# Altium schematic symbol library jlcpcb_resistors_basic.schlib: 291 symbols (part 3 of 5)
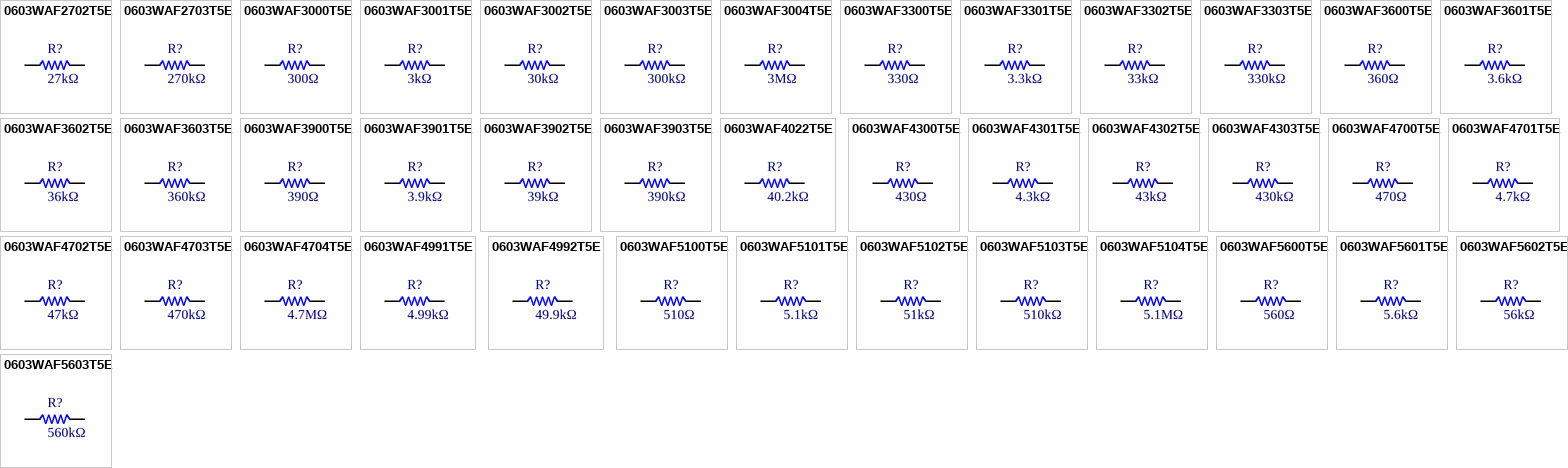
[diagram p9: symbols 0603WAF2702T5E to 0603WAF5603T5E]

## 0603WAF3300T5E
designator R?  Resistance: 330Ω  (hidden comment: *)
Resistor, 330Ω, ±1%, 100mW, 75V, ±100ppm/℃, -55℃~+155℃, SMD 0603; Manufacturer: Uniroyal; Manufacturer Part Number: 0603WAF3300T5E; Supplier 1: LCSC; Supplier Part Number 1: C23138; JLCPCB Part Number: C23138; Power Rating: 100mW; Category: Resistors; Package Size: 0603; JLCPCB Basic Part: Yes; Tolerance: ±1%; Voltage Rating: 75V; Temperature Coefficient: ±100ppm/℃; Temperature Rating: -55℃~+155℃; ComponentLink1Description: Datasheet; ComponentLink1URL: https://datasheet.lcsc.com/lcsc/2206010116_UNI-ROYAL-Uniroyal-Elec-0603WAF3300T5E_C23138.pdf; ComponentLink2Description: JLCPCB Part URL; ComponentLink2URL: https://jlcpcb.com/partdetail/C23138
footprint RES-0603 (0603 (1608M) Capacitor)
pins: 1, 2

## 0603WAF3301T5E
designator R?  Resistance: 3.3kΩ  (hidden comment: *)
Resistor, 3.3kΩ, ±1%, 100mW, 75V, ±100ppm/℃, -55℃~+155℃, SMD 0603; Manufacturer: Uniroyal; Manufacturer Part Number: 0603WAF3301T5E; Supplier 1: LCSC; Supplier Part Number 1: C22978; JLCPCB Part Number: C22978; Power Rating: 100mW; Category: Resistors; Package Size: 0603; JLCPCB Basic Part: Yes; Tolerance: ±1%; Voltage Rating: 75V; Temperature Coefficient: ±100ppm/℃; Temperature Rating: -55℃~+155℃; ComponentLink1Description: Datasheet; ComponentLink1URL: https://datasheet.lcsc.com/lcsc/2206010116_UNI-ROYAL-Uniroyal-Elec-0603WAF3301T5E_C22978.pdf; ComponentLink2Description: JLCPCB Part URL; ComponentLink2URL: https://jlcpcb.com/partdetail/C22978
footprint RES-0603 (0603 (1608M) Capacitor)
pins: 1, 2

## 0603WAF3302T5E
designator R?  Resistance: 33kΩ  (hidden comment: *)
Resistor, 33kΩ, ±1%, 100mW, 75V, ±100ppm/℃, -55℃~+155℃, SMD 0603; Manufacturer: Uniroyal; Manufacturer Part Number: 0603WAF3302T5E; Supplier 1: LCSC; Supplier Part Number 1: C4216; JLCPCB Part Number: C4216; Power Rating: 100mW; Category: Resistors; Package Size: 0603; JLCPCB Basic Part: Yes; Tolerance: ±1%; Voltage Rating: 75V; Temperature Coefficient: ±100ppm/℃; Temperature Rating: -55℃~+155℃; ComponentLink1Description: Datasheet; ComponentLink1URL: https://datasheet.lcsc.com/lcsc/2206010230_UNI-ROYAL-Uniroyal-Elec-0603WAF3302T5E_C4216.pdf; ComponentLink2Description: JLCPCB Part URL; ComponentLink2URL: https://jlcpcb.com/partdetail/C4216
footprint RES-0603 (0603 (1608M) Capacitor)
pins: 1, 2

## 0603WAF3303T5E
designator R?  Resistance: 330kΩ  (hidden comment: *)
Resistor, 330kΩ, ±1%, 100mW, 75V, ±100ppm/℃, -55℃~+155℃, SMD 0603; Manufacturer: Uniroyal; Manufacturer Part Number: 0603WAF3303T5E; Supplier 1: LCSC; Supplier Part Number 1: C23137; JLCPCB Part Number: C23137; Power Rating: 100mW; Category: Resistors; Package Size: 0603; JLCPCB Basic Part: Yes; Tolerance: ±1%; Voltage Rating: 75V; Temperature Coefficient: ±100ppm/℃; Temperature Rating: -55℃~+155℃; ComponentLink1Description: Datasheet; ComponentLink1URL: https://datasheet.lcsc.com/lcsc/2206010116_UNI-ROYAL-Uniroyal-Elec-0603WAF3303T5E_C23137.pdf; ComponentLink2Description: JLCPCB Part URL; ComponentLink2URL: https://jlcpcb.com/partdetail/C23137
footprint RES-0603 (0603 (1608M) Capacitor)
pins: 1, 2

## 0603WAF3600T5E
designator R?  Resistance: 360Ω  (hidden comment: *)
Resistor, 360Ω, ±1%, 100mW, 75V, ±100ppm/℃, -55℃~+155℃, SMD 0603; Manufacturer: Uniroyal; Manufacturer Part Number: 0603WAF3600T5E; Supplier 1: LCSC; Supplier Part Number 1: C25194; JLCPCB Part Number: C25194; Power Rating: 100mW; Category: Resistors; Package Size: 0603; JLCPCB Basic Part: Yes; Tolerance: ±1%; Voltage Rating: 75V; Temperature Coefficient: ±100ppm/℃; Temperature Rating: -55℃~+155℃; ComponentLink1Description: Datasheet; ComponentLink1URL: https://datasheet.lcsc.com/lcsc/2205311845_UNI-ROYAL-Uniroyal-Elec-0603WAF3600T5E_C25194.pdf; ComponentLink2Description: JLCPCB Part URL; ComponentLink2URL: https://jlcpcb.com/partdetail/C25194
footprint RES-0603 (0603 (1608M) Capacitor)
pins: 1, 2

## 0603WAF3601T5E
designator R?  Resistance: 3.6kΩ  (hidden comment: *)
Resistor, 3.6kΩ, ±1%, 100mW, 75V, ±100ppm/℃, -55℃~+155℃, SMD 0603; Manufacturer: Uniroyal; Manufacturer Part Number: 0603WAF3601T5E; Supplier 1: LCSC; Supplier Part Number 1: C22980; JLCPCB Part Number: C22980; Power Rating: 100mW; Category: Resistors; Package Size: 0603; JLCPCB Basic Part: Yes; Tolerance: ±1%; Voltage Rating: 75V; Temperature Coefficient: ±100ppm/℃; Temperature Rating: -55℃~+155℃; ComponentLink1Description: Datasheet; ComponentLink1URL: https://datasheet.lcsc.com/lcsc/2206010116_UNI-ROYAL-Uniroyal-Elec-0603WAF3601T5E_C22980.pdf; ComponentLink2Description: JLCPCB Part URL; ComponentLink2URL: https://jlcpcb.com/partdetail/C22980
footprint RES-0603 (0603 (1608M) Capacitor)
pins: 1, 2

## 0603WAF3602T5E
designator R?  Resistance: 36kΩ  (hidden comment: *)
Resistor, 36kΩ, ±1%, 100mW, 75V, ±100ppm/℃, -55℃~+155℃, SMD 0603; Manufacturer: Uniroyal; Manufacturer Part Number: 0603WAF3602T5E; Supplier 1: LCSC; Supplier Part Number 1: C23147; JLCPCB Part Number: C23147; Power Rating: 100mW; Category: Resistors; Package Size: 0603; JLCPCB Basic Part: Yes; Tolerance: ±1%; Voltage Rating: 75V; Temperature Coefficient: ±100ppm/℃; Temperature Rating: -55℃~+155℃; ComponentLink1Description: Datasheet; ComponentLink1URL: https://datasheet.lcsc.com/lcsc/2206010116_UNI-ROYAL-Uniroyal-Elec-0603WAF3602T5E_C23147.pdf; ComponentLink2Description: JLCPCB Part URL; ComponentLink2URL: https://jlcpcb.com/partdetail/C23147
footprint RES-0603 (0603 (1608M) Capacitor)
pins: 1, 2

## 0603WAF3603T5E
designator R?  Resistance: 360kΩ  (hidden comment: *)
Resistor, 360kΩ, ±1%, 100mW, 75V, ±100ppm/℃, -55℃~+155℃, SMD 0603; Manufacturer: Uniroyal; Manufacturer Part Number: 0603WAF3603T5E; Supplier 1: LCSC; Supplier Part Number 1: C23146; JLCPCB Part Number: C23146; Power Rating: 100mW; Category: Resistors; Package Size: 0603; JLCPCB Basic Part: Yes; Tolerance: ±1%; Voltage Rating: 75V; Temperature Coefficient: ±100ppm/℃; Temperature Rating: -55℃~+155℃; ComponentLink1Description: Datasheet; ComponentLink1URL: https://datasheet.lcsc.com/lcsc/2206010116_UNI-ROYAL-Uniroyal-Elec-0603WAF3603T5E_C23146.pdf; ComponentLink2Description: JLCPCB Part URL; ComponentLink2URL: https://jlcpcb.com/partdetail/C23146
footprint RES-0603 (0603 (1608M) Capacitor)
pins: 1, 2

## 0603WAF3900T5E
designator R?  Resistance: 390Ω  (hidden comment: *)
Resistor, 390Ω, ±1%, 100mW, 75V, ±100ppm/℃, -55℃~+155℃, SMD 0603; Manufacturer: Uniroyal; Manufacturer Part Number: 0603WAF3900T5E; Supplier 1: LCSC; Supplier Part Number 1: C23151; JLCPCB Part Number: C23151; Power Rating: 100mW; Category: Resistors; Package Size: 0603; JLCPCB Basic Part: Yes; Tolerance: ±1%; Voltage Rating: 75V; Temperature Coefficient: ±100ppm/℃; Temperature Rating: -55℃~+155℃; ComponentLink1Description: Datasheet; ComponentLink1URL: https://datasheet.lcsc.com/lcsc/2206010116_UNI-ROYAL-Uniroyal-Elec-0603WAF3900T5E_C23151.pdf; ComponentLink2Description: JLCPCB Part URL; ComponentLink2URL: https://jlcpcb.com/partdetail/C23151
footprint RES-0603 (0603 (1608M) Capacitor)
pins: 1, 2

## 0603WAF3901T5E
designator R?  Resistance: 3.9kΩ  (hidden comment: *)
Resistor, 3.9kΩ, ±1%, 100mW, 75V, ±100ppm/℃, -55℃~+155℃, SMD 0603; Manufacturer: Uniroyal; Manufacturer Part Number: 0603WAF3901T5E; Supplier 1: LCSC; Supplier Part Number 1: C23018; JLCPCB Part Number: C23018; Power Rating: 100mW; Category: Resistors; Package Size: 0603; JLCPCB Basic Part: Yes; Tolerance: ±1%; Voltage Rating: 75V; Temperature Coefficient: ±100ppm/℃; Temperature Rating: -55℃~+155℃; ComponentLink1Description: Datasheet; ComponentLink1URL: https://datasheet.lcsc.com/lcsc/2206010116_UNI-ROYAL-Uniroyal-Elec-0603WAF3901T5E_C23018.pdf; ComponentLink2Description: JLCPCB Part URL; ComponentLink2URL: https://jlcpcb.com/partdetail/C23018
footprint RES-0603 (0603 (1608M) Capacitor)
pins: 1, 2

## 0603WAF3902T5E
designator R?  Resistance: 39kΩ  (hidden comment: *)
Resistor, 39kΩ, ±1%, 100mW, 75V, ±100ppm/℃, -55℃~+155℃, SMD 0603; Manufacturer: Uniroyal; Manufacturer Part Number: 0603WAF3902T5E; Supplier 1: LCSC; Supplier Part Number 1: C23153; JLCPCB Part Number: C23153; Power Rating: 100mW; Category: Resistors; Package Size: 0603; JLCPCB Basic Part: Yes; Tolerance: ±1%; Voltage Rating: 75V; Temperature Coefficient: ±100ppm/℃; Temperature Rating: -55℃~+155℃; ComponentLink1Description: Datasheet; ComponentLink1URL: https://datasheet.lcsc.com/lcsc/2206010116_UNI-ROYAL-Uniroyal-Elec-0603WAF3902T5E_C23153.pdf; ComponentLink2Description: JLCPCB Part URL; ComponentLink2URL: https://jlcpcb.com/partdetail/C23153
footprint RES-0603 (0603 (1608M) Capacitor)
pins: 1, 2

## 0603WAF3903T5E
designator R?  Resistance: 390kΩ  (hidden comment: *)
Resistor, 390kΩ, ±1%, 100mW, 75V, ±100ppm/℃, -55℃~+155℃, SMD 0603; Manufacturer: Uniroyal; Manufacturer Part Number: 0603WAF3903T5E; Supplier 1: LCSC; Supplier Part Number 1: C23150; JLCPCB Part Number: C23150; Power Rating: 100mW; Category: Resistors; Package Size: 0603; JLCPCB Basic Part: Yes; Tolerance: ±1%; Voltage Rating: 75V; Temperature Coefficient: ±100ppm/℃; Temperature Rating: -55℃~+155℃; ComponentLink1Description: Datasheet; ComponentLink1URL: https://datasheet.lcsc.com/lcsc/2206010116_UNI-ROYAL-Uniroyal-Elec-0603WAF3903T5E_C23150.pdf; ComponentLink2Description: JLCPCB Part URL; ComponentLink2URL: https://jlcpcb.com/partdetail/C23150
footprint RES-0603 (0603 (1608M) Capacitor)
pins: 1, 2

## 0603WAF4022T5E
designator R?  Resistance: 40.2kΩ  (hidden comment: *)
Resistor, 40.2kΩ, ±1%, 100mW, 75V, ±100ppm/℃, -55℃~+155℃, SMD 0603; Manufacturer: Uniroyal; Manufacturer Part Number: 0603WAF4022T5E; Supplier 1: LCSC; Supplier Part Number 1: C12447; JLCPCB Part Number: C12447; Power Rating: 100mW; Category: Resistors; Package Size: 0603; JLCPCB Basic Part: Yes; Tolerance: ±1%; Voltage Rating: 75V; Temperature Coefficient: ±100ppm/℃; Temperature Rating: -55℃~+155℃; ComponentLink1Description: Datasheet; ComponentLink1URL: https://datasheet.lcsc.com/lcsc/2206010216_UNI-ROYAL-Uniroyal-Elec-0603WAF4022T5E_C12447.pdf; ComponentLink2Description: JLCPCB Part URL; ComponentLink2URL: https://jlcpcb.com/partdetail/C12447
footprint RES-0603 (0603 (1608M) Capacitor)
pins: 1, 2

## 0603WAF4300T5E
designator R?  Resistance: 430Ω  (hidden comment: *)
Resistor, 430Ω, ±1%, 100mW, 75V, ±100ppm/℃, -55℃~+155℃, SMD 0603; Manufacturer: Uniroyal; Manufacturer Part Number: 0603WAF4300T5E; Supplier 1: LCSC; Supplier Part Number 1: C23170; JLCPCB Part Number: C23170; Power Rating: 100mW; Category: Resistors; Package Size: 0603; JLCPCB Basic Part: Yes; Tolerance: ±1%; Voltage Rating: 75V; Temperature Coefficient: ±100ppm/℃; Temperature Rating: -55℃~+155℃; ComponentLink1Description: Datasheet; ComponentLink1URL: https://datasheet.lcsc.com/lcsc/2206010116_UNI-ROYAL-Uniroyal-Elec-0603WAF4300T5E_C23170.pdf; ComponentLink2Description: JLCPCB Part URL; ComponentLink2URL: https://jlcpcb.com/partdetail/C23170
footprint RES-0603 (0603 (1608M) Capacitor)
pins: 1, 2

## 0603WAF4301T5E
designator R?  Resistance: 4.3kΩ  (hidden comment: *)
Resistor, 4.3kΩ, ±1%, 100mW, 75V, ±100ppm/℃, -55℃~+155℃, SMD 0603; Manufacturer: Uniroyal; Manufacturer Part Number: 0603WAF4301T5E; Supplier 1: LCSC; Supplier Part Number 1: C23159; JLCPCB Part Number: C23159; Power Rating: 100mW; Category: Resistors; Package Size: 0603; JLCPCB Basic Part: Yes; Tolerance: ±1%; Voltage Rating: 75V; Temperature Coefficient: ±100ppm/℃; Temperature Rating: -55℃~+155℃; ComponentLink1Description: Datasheet; ComponentLink1URL: https://datasheet.lcsc.com/lcsc/2206010116_UNI-ROYAL-Uniroyal-Elec-0603WAF4301T5E_C23159.pdf; ComponentLink2Description: JLCPCB Part URL; ComponentLink2URL: https://jlcpcb.com/partdetail/C23159
footprint RES-0603 (0603 (1608M) Capacitor)
pins: 1, 2

## 0603WAF4302T5E
designator R?  Resistance: 43kΩ  (hidden comment: *)
Resistor, 43kΩ, ±1%, 100mW, 75V, ±100ppm/℃, -55℃~+155℃, SMD 0603; Manufacturer: Uniroyal; Manufacturer Part Number: 0603WAF4302T5E; Supplier 1: LCSC; Supplier Part Number 1: C23172; JLCPCB Part Number: C23172; Power Rating: 100mW; Category: Resistors; Package Size: 0603; JLCPCB Basic Part: Yes; Tolerance: ±1%; Voltage Rating: 75V; Temperature Coefficient: ±100ppm/℃; Temperature Rating: -55℃~+155℃; ComponentLink1Description: Datasheet; ComponentLink1URL: https://datasheet.lcsc.com/lcsc/2206010116_UNI-ROYAL-Uniroyal-Elec-0603WAF4302T5E_C23172.pdf; ComponentLink2Description: JLCPCB Part URL; ComponentLink2URL: https://jlcpcb.com/partdetail/C23172
footprint RES-0603 (0603 (1608M) Capacitor)
pins: 1, 2

## 0603WAF4303T5E
designator R?  Resistance: 430kΩ  (hidden comment: *)
Resistor, 430kΩ, ±1%, 100mW, 75V, ±100ppm/℃, -55℃~+155℃, SMD 0603; Manufacturer: Uniroyal; Manufacturer Part Number: 0603WAF4303T5E; Supplier 1: LCSC; Supplier Part Number 1: C25969; JLCPCB Part Number: C25969; Power Rating: 100mW; Category: Resistors; Package Size: 0603; JLCPCB Basic Part: Yes; Tolerance: ±1%; Voltage Rating: 75V; Temperature Coefficient: ±100ppm/℃; Temperature Rating: -55℃~+155℃; ComponentLink1Description: Datasheet; ComponentLink1URL: https://datasheet.lcsc.com/lcsc/2206010045_UNI-ROYAL-Uniroyal-Elec-0603WAF4303T5E_C25969.pdf; ComponentLink2Description: JLCPCB Part URL; ComponentLink2URL: https://jlcpcb.com/partdetail/C25969
footprint RES-0603 (0603 (1608M) Capacitor)
pins: 1, 2

## 0603WAF4700T5E
designator R?  Resistance: 470Ω  (hidden comment: *)
Resistor, 470Ω, ±1%, 100mW, 75V, ±100ppm/℃, -55℃~+155℃, SMD 0603; Manufacturer: Uniroyal; Manufacturer Part Number: 0603WAF4700T5E; Supplier 1: LCSC; Supplier Part Number 1: C23179; JLCPCB Part Number: C23179; Power Rating: 100mW; Category: Resistors; Package Size: 0603; JLCPCB Basic Part: Yes; Tolerance: ±1%; Voltage Rating: 75V; Temperature Coefficient: ±100ppm/℃; Temperature Rating: -55℃~+155℃; ComponentLink1Description: Datasheet; ComponentLink1URL: https://datasheet.lcsc.com/lcsc/2206010116_UNI-ROYAL-Uniroyal-Elec-0603WAF4700T5E_C23179.pdf; ComponentLink2Description: JLCPCB Part URL; ComponentLink2URL: https://jlcpcb.com/partdetail/C23179
footprint RES-0603 (0603 (1608M) Capacitor)
pins: 1, 2

## 0603WAF4701T5E
designator R?  Resistance: 4.7kΩ  (hidden comment: *)
Resistor, 4.7kΩ, ±1%, 100mW, 75V, ±100ppm/℃, -55℃~+155℃, SMD 0603; Manufacturer: Uniroyal; Manufacturer Part Number: 0603WAF4701T5E; Supplier 1: LCSC; Supplier Part Number 1: C23162; JLCPCB Part Number: C23162; Power Rating: 100mW; Category: Resistors; Package Size: 0603; JLCPCB Basic Part: Yes; Tolerance: ±1%; Voltage Rating: 75V; Temperature Coefficient: ±100ppm/℃; Temperature Rating: -55℃~+155℃; ComponentLink1Description: Datasheet; ComponentLink1URL: https://datasheet.lcsc.com/lcsc/2206010116_UNI-ROYAL-Uniroyal-Elec-0603WAF4701T5E_C23162.pdf; ComponentLink2Description: JLCPCB Part URL; ComponentLink2URL: https://jlcpcb.com/partdetail/C23162
footprint RES-0603 (0603 (1608M) Capacitor)
pins: 1, 2

## 0603WAF4702T5E
designator R?  Resistance: 47kΩ  (hidden comment: *)
Resistor, 47kΩ, ±1%, 100mW, 75V, ±100ppm/℃, -55℃~+155℃, SMD 0603; Manufacturer: Uniroyal; Manufacturer Part Number: 0603WAF4702T5E; Supplier 1: LCSC; Supplier Part Number 1: C25819; JLCPCB Part Number: C25819; Power Rating: 100mW; Category: Resistors; Package Size: 0603; JLCPCB Basic Part: Yes; Tolerance: ±1%; Voltage Rating: 75V; Temperature Coefficient: ±100ppm/℃; Temperature Rating: -55℃~+155℃; ComponentLink1Description: Datasheet; ComponentLink1URL: https://datasheet.lcsc.com/lcsc/2206010045_UNI-ROYAL-Uniroyal-Elec-0603WAF4702T5E_C25819.pdf; ComponentLink2Description: JLCPCB Part URL; ComponentLink2URL: https://jlcpcb.com/partdetail/C25819
footprint RES-0603 (0603 (1608M) Capacitor)
pins: 1, 2

## 0603WAF4703T5E
designator R?  Resistance: 470kΩ  (hidden comment: *)
Resistor, 470kΩ, ±1%, 100mW, 75V, ±100ppm/℃, -55℃~+155℃, SMD 0603; Manufacturer: Uniroyal; Manufacturer Part Number: 0603WAF4703T5E; Supplier 1: LCSC; Supplier Part Number 1: C23178; JLCPCB Part Number: C23178; Power Rating: 100mW; Category: Resistors; Package Size: 0603; JLCPCB Basic Part: Yes; Tolerance: ±1%; Voltage Rating: 75V; Temperature Coefficient: ±100ppm/℃; Temperature Rating: -55℃~+155℃; ComponentLink1Description: Datasheet; ComponentLink1URL: https://datasheet.lcsc.com/lcsc/2206010116_UNI-ROYAL-Uniroyal-Elec-0603WAF4703T5E_C23178.pdf; ComponentLink2Description: JLCPCB Part URL; ComponentLink2URL: https://jlcpcb.com/partdetail/C23178
footprint RES-0603 (0603 (1608M) Capacitor)
pins: 1, 2

## 0603WAF4704T5E
designator R?  Resistance: 4.7MΩ  (hidden comment: *)
Resistor, 4.7MΩ, ±1%, 100mW, 75V, ±100ppm/℃, -55℃~+155℃, SMD 0603; Manufacturer: Uniroyal; Manufacturer Part Number: 0603WAF4704T5E; Supplier 1: LCSC; Supplier Part Number 1: C23163; JLCPCB Part Number: C23163; Power Rating: 100mW; Category: Resistors; Package Size: 0603; JLCPCB Basic Part: Yes; Tolerance: ±1%; Voltage Rating: 75V; Temperature Coefficient: ±100ppm/℃; Temperature Rating: -55℃~+155℃; ComponentLink1Description: Datasheet; ComponentLink1URL: https://datasheet.lcsc.com/lcsc/2206010116_UNI-ROYAL-Uniroyal-Elec-0603WAF4704T5E_C23163.pdf; ComponentLink2Description: JLCPCB Part URL; ComponentLink2URL: https://jlcpcb.com/partdetail/C23163
footprint RES-0603 (0603 (1608M) Capacitor)
pins: 1, 2

## 0603WAF4991T5E
designator R?  Resistance: 4.99kΩ  (hidden comment: *)
Resistor, 4.99kΩ, ±1%, 100mW, 75V, ±100ppm/℃, -55℃~+155℃, SMD 0603; Manufacturer: Uniroyal; Manufacturer Part Number: 0603WAF4991T5E; Supplier 1: LCSC; Supplier Part Number 1: C23046; JLCPCB Part Number: C23046; Power Rating: 100mW; Category: Resistors; Package Size: 0603; JLCPCB Basic Part: Yes; Tolerance: ±1%; Voltage Rating: 75V; Temperature Coefficient: ±100ppm/℃; Temperature Rating: -55℃~+155℃; ComponentLink1Description: Datasheet; ComponentLink1URL: https://datasheet.lcsc.com/lcsc/2206010116_UNI-ROYAL-Uniroyal-Elec-0603WAF4991T5E_C23046.pdf; ComponentLink2Description: JLCPCB Part URL; ComponentLink2URL: https://jlcpcb.com/partdetail/C23046
footprint RES-0603 (0603 (1608M) Capacitor)
pins: 1, 2

## 0603WAF4992T5E
designator R?  Resistance: 49.9kΩ  (hidden comment: *)
Resistor, 49.9kΩ, ±1%, 100mW, 75V, ±100ppm/℃, -55℃~+155℃, SMD 0603; Manufacturer: Uniroyal; Manufacturer Part Number: 0603WAF4992T5E; Supplier 1: LCSC; Supplier Part Number 1: C23184; JLCPCB Part Number: C23184; Power Rating: 100mW; Category: Resistors; Package Size: 0603; JLCPCB Basic Part: Yes; Tolerance: ±1%; Voltage Rating: 75V; Temperature Coefficient: ±100ppm/℃; Temperature Rating: -55℃~+155℃; ComponentLink1Description: Datasheet; ComponentLink1URL: https://datasheet.lcsc.com/lcsc/2206010116_UNI-ROYAL-Uniroyal-Elec-0603WAF4992T5E_C23184.pdf; ComponentLink2Description: JLCPCB Part URL; ComponentLink2URL: https://jlcpcb.com/partdetail/C23184
footprint RES-0603 (0603 (1608M) Capacitor)
pins: 1, 2

## 0603WAF5100T5E
designator R?  Resistance: 510Ω  (hidden comment: *)
Resistor, 510Ω, ±1%, 100mW, 75V, ±100ppm/℃, -55℃~+155℃, SMD 0603; Manufacturer: Uniroyal; Manufacturer Part Number: 0603WAF5100T5E; Supplier 1: LCSC; Supplier Part Number 1: C23193; JLCPCB Part Number: C23193; Power Rating: 100mW; Category: Resistors; Package Size: 0603; JLCPCB Basic Part: Yes; Tolerance: ±1%; Voltage Rating: 75V; Temperature Coefficient: ±100ppm/℃; Temperature Rating: -55℃~+155℃; ComponentLink1Description: Datasheet; ComponentLink1URL: https://datasheet.lcsc.com/lcsc/2206010116_UNI-ROYAL-Uniroyal-Elec-0603WAF5100T5E_C23193.pdf; ComponentLink2Description: JLCPCB Part URL; ComponentLink2URL: https://jlcpcb.com/partdetail/C23193
footprint RES-0603 (0603 (1608M) Capacitor)
pins: 1, 2

## 0603WAF5101T5E
designator R?  Resistance: 5.1kΩ  (hidden comment: *)
Resistor, 5.1kΩ, ±1%, 100mW, 75V, ±100ppm/℃, -55℃~+155℃, SMD 0603; Manufacturer: Uniroyal; Manufacturer Part Number: 0603WAF5101T5E; Supplier 1: LCSC; Supplier Part Number 1: C23186; JLCPCB Part Number: C23186; Power Rating: 100mW; Category: Resistors; Package Size: 0603; JLCPCB Basic Part: Yes; Tolerance: ±1%; Voltage Rating: 75V; Temperature Coefficient: ±100ppm/℃; Temperature Rating: -55℃~+155℃; ComponentLink1Description: Datasheet; ComponentLink1URL: https://datasheet.lcsc.com/lcsc/2206010116_UNI-ROYAL-Uniroyal-Elec-0603WAF5101T5E_C23186.pdf; ComponentLink2Description: JLCPCB Part URL; ComponentLink2URL: https://jlcpcb.com/partdetail/C23186
footprint RES-0603 (0603 (1608M) Capacitor)
pins: 1, 2

## 0603WAF5102T5E
designator R?  Resistance: 51kΩ  (hidden comment: *)
Resistor, 51kΩ, ±1%, 100mW, 75V, ±100ppm/℃, -55℃~+155℃, SMD 0603; Manufacturer: Uniroyal; Manufacturer Part Number: 0603WAF5102T5E; Supplier 1: LCSC; Supplier Part Number 1: C23196; JLCPCB Part Number: C23196; Power Rating: 100mW; Category: Resistors; Package Size: 0603; JLCPCB Basic Part: Yes; Tolerance: ±1%; Voltage Rating: 75V; Temperature Coefficient: ±100ppm/℃; Temperature Rating: -55℃~+155℃; ComponentLink1Description: Datasheet; ComponentLink1URL: https://datasheet.lcsc.com/lcsc/2206010116_UNI-ROYAL-Uniroyal-Elec-0603WAF5102T5E_C23196.pdf; ComponentLink2Description: JLCPCB Part URL; ComponentLink2URL: https://jlcpcb.com/partdetail/C23196
footprint RES-0603 (0603 (1608M) Capacitor)
pins: 1, 2

## 0603WAF5103T5E
designator R?  Resistance: 510kΩ  (hidden comment: *)
Resistor, 510kΩ, ±1%, 100mW, 75V, ±100ppm/℃, -55℃~+155℃, SMD 0603; Manufacturer: Uniroyal; Manufacturer Part Number: 0603WAF5103T5E; Supplier 1: LCSC; Supplier Part Number 1: C23192; JLCPCB Part Number: C23192; Power Rating: 100mW; Category: Resistors; Package Size: 0603; JLCPCB Basic Part: Yes; Tolerance: ±1%; Voltage Rating: 75V; Temperature Coefficient: ±100ppm/℃; Temperature Rating: -55℃~+155℃; ComponentLink1Description: Datasheet; ComponentLink1URL: https://datasheet.lcsc.com/lcsc/2206010116_UNI-ROYAL-Uniroyal-Elec-0603WAF5103T5E_C23192.pdf; ComponentLink2Description: JLCPCB Part URL; ComponentLink2URL: https://jlcpcb.com/partdetail/C23192
footprint RES-0603 (0603 (1608M) Capacitor)
pins: 1, 2

## 0603WAF5104T5E
designator R?  Resistance: 5.1MΩ  (hidden comment: *)
Resistor, 5.1MΩ, ±1%, 100mW, 75V, ±100ppm/℃, -55℃~+155℃, SMD 0603; Manufacturer: Uniroyal; Manufacturer Part Number: 0603WAF5104T5E; Supplier 1: LCSC; Supplier Part Number 1: C13320; JLCPCB Part Number: C13320; Power Rating: 100mW; Category: Resistors; Package Size: 0603; JLCPCB Basic Part: Yes; Tolerance: ±1%; Voltage Rating: 75V; Temperature Coefficient: ±100ppm/℃; Temperature Rating: -55℃~+155℃; ComponentLink1Description: Datasheet; ComponentLink1URL: https://datasheet.lcsc.com/lcsc/2206010216_UNI-ROYAL-Uniroyal-Elec-0603WAF5104T5E_C13320.pdf; ComponentLink2Description: JLCPCB Part URL; ComponentLink2URL: https://jlcpcb.com/partdetail/C13320
footprint RES-0603 (0603 (1608M) Capacitor)
pins: 1, 2

## 0603WAF5600T5E
designator R?  Resistance: 560Ω  (hidden comment: *)
Resistor, 560Ω, ±1%, 100mW, 75V, ±100ppm/℃, -55℃~+155℃, SMD 0603; Manufacturer: Uniroyal; Manufacturer Part Number: 0603WAF5600T5E; Supplier 1: LCSC; Supplier Part Number 1: C23204; JLCPCB Part Number: C23204; Power Rating: 100mW; Category: Resistors; Package Size: 0603; JLCPCB Basic Part: Yes; Tolerance: ±1%; Voltage Rating: 75V; Temperature Coefficient: ±100ppm/℃; Temperature Rating: -55℃~+155℃; ComponentLink1Description: Datasheet; ComponentLink1URL: https://datasheet.lcsc.com/lcsc/2206010116_UNI-ROYAL-Uniroyal-Elec-0603WAF5600T5E_C23204.pdf; ComponentLink2Description: JLCPCB Part URL; ComponentLink2URL: https://jlcpcb.com/partdetail/C23204
footprint RES-0603 (0603 (1608M) Capacitor)
pins: 1, 2

## 0603WAF5601T5E
designator R?  Resistance: 5.6kΩ  (hidden comment: *)
Resistor, 5.6kΩ, ±1%, 100mW, 75V, ±100ppm/℃, -55℃~+155℃, SMD 0603; Manufacturer: Uniroyal; Manufacturer Part Number: 0603WAF5601T5E; Supplier 1: LCSC; Supplier Part Number 1: C23189; JLCPCB Part Number: C23189; Power Rating: 100mW; Category: Resistors; Package Size: 0603; JLCPCB Basic Part: Yes; Tolerance: ±1%; Voltage Rating: 75V; Temperature Coefficient: ±100ppm/℃; Temperature Rating: -55℃~+155℃; ComponentLink1Description: Datasheet; ComponentLink1URL: https://datasheet.lcsc.com/lcsc/2206010116_UNI-ROYAL-Uniroyal-Elec-0603WAF5601T5E_C23189.pdf; ComponentLink2Description: JLCPCB Part URL; ComponentLink2URL: https://jlcpcb.com/partdetail/C23189
footprint RES-0603 (0603 (1608M) Capacitor)
pins: 1, 2

## 0603WAF5602T5E
designator R?  Resistance: 56kΩ  (hidden comment: *)
Resistor, 56kΩ, ±1%, 100mW, 75V, ±100ppm/℃, -55℃~+155℃, SMD 0603; Manufacturer: Uniroyal; Manufacturer Part Number: 0603WAF5602T5E; Supplier 1: LCSC; Supplier Part Number 1: C23206; JLCPCB Part Number: C23206; Power Rating: 100mW; Category: Resistors; Package Size: 0603; JLCPCB Basic Part: Yes; Tolerance: ±1%; Voltage Rating: 75V; Temperature Coefficient: ±100ppm/℃; Temperature Rating: -55℃~+155℃; ComponentLink1Description: Datasheet; ComponentLink1URL: https://datasheet.lcsc.com/lcsc/2206010116_UNI-ROYAL-Uniroyal-Elec-0603WAF5602T5E_C23206.pdf; ComponentLink2Description: JLCPCB Part URL; ComponentLink2URL: https://jlcpcb.com/partdetail/C23206
footprint RES-0603 (0603 (1608M) Capacitor)
pins: 1, 2

## 0603WAF5603T5E
designator R?  Resistance: 560kΩ  (hidden comment: *)
Resistor, 560kΩ, ±1%, 100mW, 75V, ±100ppm/℃, -55℃~+155℃, SMD 0603; Manufacturer: Uniroyal; Manufacturer Part Number: 0603WAF5603T5E; Supplier 1: LCSC; Supplier Part Number 1: C23203; JLCPCB Part Number: C23203; Power Rating: 100mW; Category: Resistors; Package Size: 0603; JLCPCB Basic Part: Yes; Tolerance: ±1%; Voltage Rating: 75V; Temperature Coefficient: ±100ppm/℃; Temperature Rating: -55℃~+155℃; ComponentLink1Description: Datasheet; ComponentLink1URL: https://datasheet.lcsc.com/lcsc/2206010116_UNI-ROYAL-Uniroyal-Elec-0603WAF5603T5E_C23203.pdf; ComponentLink2Description: JLCPCB Part URL; ComponentLink2URL: https://jlcpcb.com/partdetail/C23203
footprint RES-0603 (0603 (1608M) Capacitor)
pins: 1, 2

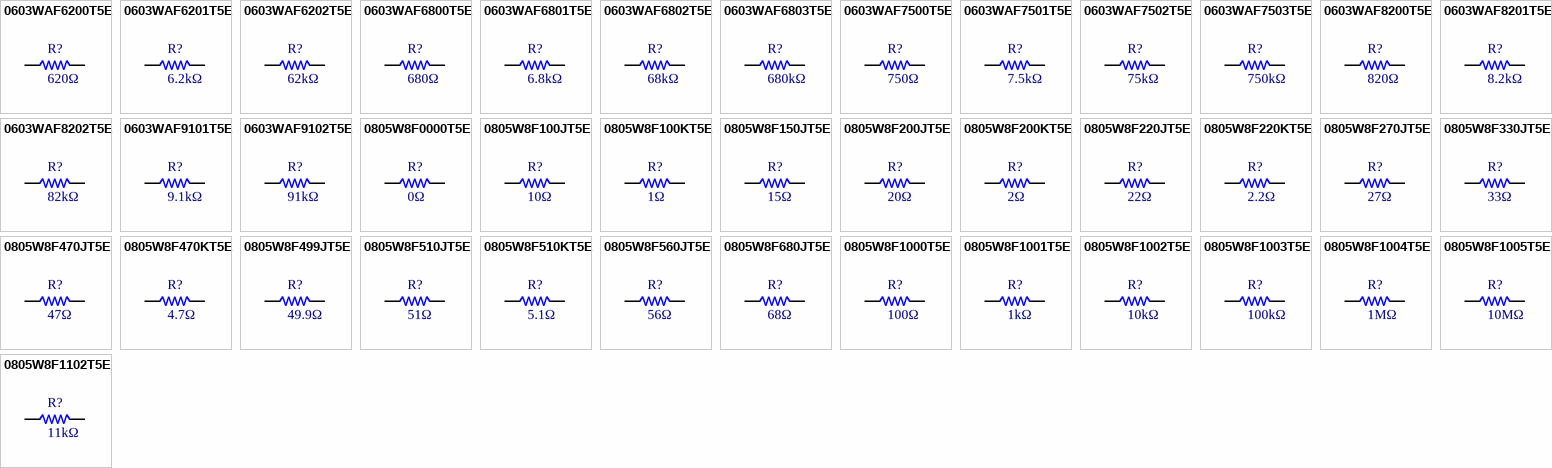
[diagram p4: symbols 0603WAF6200T5E to 0805W8F1102T5E]

## 0603WAF6200T5E
designator R?  Resistance: 620Ω  (hidden comment: *)
Resistor, 620Ω, ±1%, 100mW, 75V, ±100ppm/℃, -55℃~+155℃, SMD 0603; Manufacturer: Uniroyal; Manufacturer Part Number: 0603WAF6200T5E; Supplier 1: LCSC; Supplier Part Number 1: C23220; JLCPCB Part Number: C23220; Power Rating: 100mW; Category: Resistors; Package Size: 0603; JLCPCB Basic Part: Yes; Tolerance: ±1%; Voltage Rating: 75V; Temperature Coefficient: ±100ppm/℃; Temperature Rating: -55℃~+155℃; ComponentLink1Description: Datasheet; ComponentLink1URL: https://datasheet.lcsc.com/lcsc/2206010116_UNI-ROYAL-Uniroyal-Elec-0603WAF6200T5E_C23220.pdf; ComponentLink2Description: JLCPCB Part URL; ComponentLink2URL: https://jlcpcb.com/partdetail/C23220
footprint RES-0603 (0603 (1608M) Capacitor)
pins: 1, 2

## 0603WAF6201T5E
designator R?  Resistance: 6.2kΩ  (hidden comment: *)
Resistor, 6.2kΩ, ±1%, 100mW, 75V, ±100ppm/℃, -55℃~+155℃, SMD 0603; Manufacturer: Uniroyal; Manufacturer Part Number: 0603WAF6201T5E; Supplier 1: LCSC; Supplier Part Number 1: C4260; JLCPCB Part Number: C4260; Power Rating: 100mW; Category: Resistors; Package Size: 0603; JLCPCB Basic Part: Yes; Tolerance: ±1%; Voltage Rating: 75V; Temperature Coefficient: ±100ppm/℃; Temperature Rating: -55℃~+155℃; ComponentLink1Description: Datasheet; ComponentLink1URL: https://datasheet.lcsc.com/lcsc/2206010230_UNI-ROYAL-Uniroyal-Elec-0603WAF6201T5E_C4260.pdf; ComponentLink2Description: JLCPCB Part URL; ComponentLink2URL: https://jlcpcb.com/partdetail/C4260
footprint RES-0603 (0603 (1608M) Capacitor)
pins: 1, 2

## 0603WAF6202T5E
designator R?  Resistance: 62kΩ  (hidden comment: *)
Resistor, 62kΩ, ±1%, 100mW, 75V, ±100ppm/℃, -55℃~+155℃, SMD 0603; Manufacturer: Uniroyal; Manufacturer Part Number: 0603WAF6202T5E; Supplier 1: LCSC; Supplier Part Number 1: C23221; JLCPCB Part Number: C23221; Power Rating: 100mW; Category: Resistors; Package Size: 0603; JLCPCB Basic Part: Yes; Tolerance: ±1%; Voltage Rating: 75V; Temperature Coefficient: ±100ppm/℃; Temperature Rating: -55℃~+155℃; ComponentLink1Description: Datasheet; ComponentLink1URL: https://datasheet.lcsc.com/lcsc/2206010116_UNI-ROYAL-Uniroyal-Elec-0603WAF6202T5E_C23221.pdf; ComponentLink2Description: JLCPCB Part URL; ComponentLink2URL: https://jlcpcb.com/partdetail/C23221
footprint RES-0603 (0603 (1608M) Capacitor)
pins: 1, 2

## 0603WAF6800T5E
designator R?  Resistance: 680Ω  (hidden comment: *)
Resistor, 680Ω, ±1%, 100mW, 75V, ±100ppm/℃, -55℃~+155℃, SMD 0603; Manufacturer: Uniroyal; Manufacturer Part Number: 0603WAF6800T5E; Supplier 1: LCSC; Supplier Part Number 1: C23228; JLCPCB Part Number: C23228; Power Rating: 100mW; Category: Resistors; Package Size: 0603; JLCPCB Basic Part: Yes; Tolerance: ±1%; Voltage Rating: 75V; Temperature Coefficient: ±100ppm/℃; Temperature Rating: -55℃~+155℃; ComponentLink1Description: Datasheet; ComponentLink1URL: https://datasheet.lcsc.com/lcsc/2206010100_UNI-ROYAL-Uniroyal-Elec-0603WAF6800T5E_C23228.pdf; ComponentLink2Description: JLCPCB Part URL; ComponentLink2URL: https://jlcpcb.com/partdetail/C23228
footprint RES-0603 (0603 (1608M) Capacitor)
pins: 1, 2

## 0603WAF6801T5E
designator R?  Resistance: 6.8kΩ  (hidden comment: *)
Resistor, 6.8kΩ, ±1%, 100mW, 75V, ±100ppm/℃, -55℃~+155℃, SMD 0603; Manufacturer: Uniroyal; Manufacturer Part Number: 0603WAF6801T5E; Supplier 1: LCSC; Supplier Part Number 1: C23212; JLCPCB Part Number: C23212; Power Rating: 100mW; Category: Resistors; Package Size: 0603; JLCPCB Basic Part: Yes; Tolerance: ±1%; Voltage Rating: 75V; Temperature Coefficient: ±100ppm/℃; Temperature Rating: -55℃~+155℃; ComponentLink1Description: Datasheet; ComponentLink1URL: https://datasheet.lcsc.com/lcsc/2206010116_UNI-ROYAL-Uniroyal-Elec-0603WAF6801T5E_C23212.pdf; ComponentLink2Description: JLCPCB Part URL; ComponentLink2URL: https://jlcpcb.com/partdetail/C23212
footprint RES-0603 (0603 (1608M) Capacitor)
pins: 1, 2

## 0603WAF6802T5E
designator R?  Resistance: 68kΩ  (hidden comment: *)
Resistor, 68kΩ, ±1%, 100mW, 75V, ±100ppm/℃, -55℃~+155℃, SMD 0603; Manufacturer: Uniroyal; Manufacturer Part Number: 0603WAF6802T5E; Supplier 1: LCSC; Supplier Part Number 1: C23231; JLCPCB Part Number: C23231; Power Rating: 100mW; Category: Resistors; Package Size: 0603; JLCPCB Basic Part: Yes; Tolerance: ±1%; Voltage Rating: 75V; Temperature Coefficient: ±100ppm/℃; Temperature Rating: -55℃~+155℃; ComponentLink1Description: Datasheet; ComponentLink1URL: https://datasheet.lcsc.com/lcsc/2206010100_UNI-ROYAL-Uniroyal-Elec-0603WAF6802T5E_C23231.pdf; ComponentLink2Description: JLCPCB Part URL; ComponentLink2URL: https://jlcpcb.com/partdetail/C23231
footprint RES-0603 (0603 (1608M) Capacitor)
pins: 1, 2

## 0603WAF6803T5E
designator R?  Resistance: 680kΩ  (hidden comment: *)
Resistor, 680kΩ, ±1%, 100mW, 75V, ±100ppm/℃, -55℃~+155℃, SMD 0603; Manufacturer: Uniroyal; Manufacturer Part Number: 0603WAF6803T5E; Supplier 1: LCSC; Supplier Part Number 1: C25822; JLCPCB Part Number: C25822; Power Rating: 100mW; Category: Resistors; Package Size: 0603; JLCPCB Basic Part: Yes; Tolerance: ±1%; Voltage Rating: 75V; Temperature Coefficient: ±100ppm/℃; Temperature Rating: -55℃~+155℃; ComponentLink1Description: Datasheet; ComponentLink1URL: https://datasheet.lcsc.com/lcsc/2206010045_UNI-ROYAL-Uniroyal-Elec-0603WAF6803T5E_C25822.pdf; ComponentLink2Description: JLCPCB Part URL; ComponentLink2URL: https://jlcpcb.com/partdetail/C25822
footprint RES-0603 (0603 (1608M) Capacitor)
pins: 1, 2

## 0603WAF7500T5E
designator R?  Resistance: 750Ω  (hidden comment: *)
Resistor, 750Ω, ±1%, 100mW, 75V, ±100ppm/℃, -55℃~+155℃, SMD 0603; Manufacturer: Uniroyal; Manufacturer Part Number: 0603WAF7500T5E; Supplier 1: LCSC; Supplier Part Number 1: C23241; JLCPCB Part Number: C23241; Power Rating: 100mW; Category: Resistors; Package Size: 0603; JLCPCB Basic Part: Yes; Tolerance: ±1%; Voltage Rating: 75V; Temperature Coefficient: ±100ppm/℃; Temperature Rating: -55℃~+155℃; ComponentLink1Description: Datasheet; ComponentLink1URL: https://datasheet.lcsc.com/lcsc/2206010100_UNI-ROYAL-Uniroyal-Elec-0603WAF7500T5E_C23241.pdf; ComponentLink2Description: JLCPCB Part URL; ComponentLink2URL: https://jlcpcb.com/partdetail/C23241
footprint RES-0603 (0603 (1608M) Capacitor)
pins: 1, 2

## 0603WAF7501T5E
designator R?  Resistance: 7.5kΩ  (hidden comment: *)
Resistor, 7.5kΩ, ±1%, 100mW, 75V, ±100ppm/℃, -55℃~+155℃, SMD 0603; Manufacturer: Uniroyal; Manufacturer Part Number: 0603WAF7501T5E; Supplier 1: LCSC; Supplier Part Number 1: C23234; JLCPCB Part Number: C23234; Power Rating: 100mW; Category: Resistors; Package Size: 0603; JLCPCB Basic Part: Yes; Tolerance: ±1%; Voltage Rating: 75V; Temperature Coefficient: ±100ppm/℃; Temperature Rating: -55℃~+155℃; ComponentLink1Description: Datasheet; ComponentLink1URL: https://datasheet.lcsc.com/lcsc/2206010100_UNI-ROYAL-Uniroyal-Elec-0603WAF7501T5E_C23234.pdf; ComponentLink2Description: JLCPCB Part URL; ComponentLink2URL: https://jlcpcb.com/partdetail/C23234
footprint RES-0603 (0603 (1608M) Capacitor)
pins: 1, 2

## 0603WAF7502T5E
designator R?  Resistance: 75kΩ  (hidden comment: *)
Resistor, 75kΩ, ±1%, 100mW, 75V, ±100ppm/℃, -55℃~+155℃, SMD 0603; Manufacturer: Uniroyal; Manufacturer Part Number: 0603WAF7502T5E; Supplier 1: LCSC; Supplier Part Number 1: C23242; JLCPCB Part Number: C23242; Power Rating: 100mW; Category: Resistors; Package Size: 0603; JLCPCB Basic Part: Yes; Tolerance: ±1%; Voltage Rating: 75V; Temperature Coefficient: ±100ppm/℃; Temperature Rating: -55℃~+155℃; ComponentLink1Description: Datasheet; ComponentLink1URL: https://datasheet.lcsc.com/lcsc/2206010100_UNI-ROYAL-Uniroyal-Elec-0603WAF7502T5E_C23242.pdf; ComponentLink2Description: JLCPCB Part URL; ComponentLink2URL: https://jlcpcb.com/partdetail/C23242
footprint RES-0603 (0603 (1608M) Capacitor)
pins: 1, 2

## 0603WAF7503T5E
designator R?  Resistance: 750kΩ  (hidden comment: *)
Resistor, 750kΩ, ±1%, 100mW, 75V, ±100ppm/℃, -55℃~+155℃, SMD 0603; Manufacturer: Uniroyal; Manufacturer Part Number: 0603WAF7503T5E; Supplier 1: LCSC; Supplier Part Number 1: C23240; JLCPCB Part Number: C23240; Power Rating: 100mW; Category: Resistors; Package Size: 0603; JLCPCB Basic Part: Yes; Tolerance: ±1%; Voltage Rating: 75V; Temperature Coefficient: ±100ppm/℃; Temperature Rating: -55℃~+155℃; ComponentLink1Description: Datasheet; ComponentLink1URL: https://datasheet.lcsc.com/lcsc/2206010100_UNI-ROYAL-Uniroyal-Elec-0603WAF7503T5E_C23240.pdf; ComponentLink2Description: JLCPCB Part URL; ComponentLink2URL: https://jlcpcb.com/partdetail/C23240
footprint RES-0603 (0603 (1608M) Capacitor)
pins: 1, 2

## 0603WAF8200T5E
designator R?  Resistance: 820Ω  (hidden comment: *)
Resistor, 820Ω, ±1%, 100mW, 75V, ±100ppm/℃, -55℃~+155℃, SMD 0603; Manufacturer: Uniroyal; Manufacturer Part Number: 0603WAF8200T5E; Supplier 1: LCSC; Supplier Part Number 1: C23253; JLCPCB Part Number: C23253; Power Rating: 100mW; Category: Resistors; Package Size: 0603; JLCPCB Basic Part: Yes; Tolerance: ±1%; Voltage Rating: 75V; Temperature Coefficient: ±100ppm/℃; Temperature Rating: -55℃~+155℃; ComponentLink1Description: Datasheet; ComponentLink1URL: https://datasheet.lcsc.com/lcsc/2206010100_UNI-ROYAL-Uniroyal-Elec-0603WAF8200T5E_C23253.pdf; ComponentLink2Description: JLCPCB Part URL; ComponentLink2URL: https://jlcpcb.com/partdetail/C23253
footprint RES-0603 (0603 (1608M) Capacitor)
pins: 1, 2

## 0603WAF8201T5E
designator R?  Resistance: 8.2kΩ  (hidden comment: *)
Resistor, 8.2kΩ, ±1%, 100mW, 75V, ±100ppm/℃, -55℃~+155℃, SMD 0603; Manufacturer: Uniroyal; Manufacturer Part Number: 0603WAF8201T5E; Supplier 1: LCSC; Supplier Part Number 1: C25981; JLCPCB Part Number: C25981; Power Rating: 100mW; Category: Resistors; Package Size: 0603; JLCPCB Basic Part: Yes; Tolerance: ±1%; Voltage Rating: 75V; Temperature Coefficient: ±100ppm/℃; Temperature Rating: -55℃~+155℃; ComponentLink1Description: Datasheet; ComponentLink1URL: https://datasheet.lcsc.com/lcsc/2206010045_UNI-ROYAL-Uniroyal-Elec-0603WAF8201T5E_C25981.pdf; ComponentLink2Description: JLCPCB Part URL; ComponentLink2URL: https://jlcpcb.com/partdetail/C25981
footprint RES-0603 (0603 (1608M) Capacitor)
pins: 1, 2

## 0603WAF8202T5E
designator R?  Resistance: 82kΩ  (hidden comment: *)
Resistor, 82kΩ, ±1%, 100mW, 75V, ±100ppm/℃, -55℃~+155℃, SMD 0603; Manufacturer: Uniroyal; Manufacturer Part Number: 0603WAF8202T5E; Supplier 1: LCSC; Supplier Part Number 1: C23254; JLCPCB Part Number: C23254; Power Rating: 100mW; Category: Resistors; Package Size: 0603; JLCPCB Basic Part: Yes; Tolerance: ±1%; Voltage Rating: 75V; Temperature Coefficient: ±100ppm/℃; Temperature Rating: -55℃~+155℃; ComponentLink1Description: Datasheet; ComponentLink1URL: https://datasheet.lcsc.com/lcsc/2206010100_UNI-ROYAL-Uniroyal-Elec-0603WAF8202T5E_C23254.pdf; ComponentLink2Description: JLCPCB Part URL; ComponentLink2URL: https://jlcpcb.com/partdetail/C23254
footprint RES-0603 (0603 (1608M) Capacitor)
pins: 1, 2

## 0603WAF9101T5E
designator R?  Resistance: 9.1kΩ  (hidden comment: *)
Resistor, 9.1kΩ, ±1%, 100mW, 75V, ±100ppm/℃, -55℃~+155℃, SMD 0603; Manufacturer: Uniroyal; Manufacturer Part Number: 0603WAF9101T5E; Supplier 1: LCSC; Supplier Part Number 1: C23260; JLCPCB Part Number: C23260; Power Rating: 100mW; Category: Resistors; Package Size: 0603; JLCPCB Basic Part: Yes; Tolerance: ±1%; Voltage Rating: 75V; Temperature Coefficient: ±100ppm/℃; Temperature Rating: -55℃~+155℃; ComponentLink1Description: Datasheet; ComponentLink1URL: https://datasheet.lcsc.com/lcsc/2206010100_UNI-ROYAL-Uniroyal-Elec-0603WAF9101T5E_C23260.pdf; ComponentLink2Description: JLCPCB Part URL; ComponentLink2URL: https://jlcpcb.com/partdetail/C23260
footprint RES-0603 (0603 (1608M) Capacitor)
pins: 1, 2

## 0603WAF9102T5E
designator R?  Resistance: 91kΩ  (hidden comment: *)
Resistor, 91kΩ, ±1%, 100mW, 75V, ±100ppm/℃, -55℃~+155℃, SMD 0603; Manufacturer: Uniroyal; Manufacturer Part Number: 0603WAF9102T5E; Supplier 1: LCSC; Supplier Part Number 1: C23265; JLCPCB Part Number: C23265; Power Rating: 100mW; Category: Resistors; Package Size: 0603; JLCPCB Basic Part: Yes; Tolerance: ±1%; Voltage Rating: 75V; Temperature Coefficient: ±100ppm/℃; Temperature Rating: -55℃~+155℃; ComponentLink1Description: Datasheet; ComponentLink1URL: https://datasheet.lcsc.com/lcsc/2206010100_UNI-ROYAL-Uniroyal-Elec-0603WAF9102T5E_C23265.pdf; ComponentLink2Description: JLCPCB Part URL; ComponentLink2URL: https://jlcpcb.com/partdetail/C23265
footprint RES-0603 (0603 (1608M) Capacitor)
pins: 1, 2

## 0805W8F0000T5E
designator R?  Resistance: 0Ω  (hidden comment: *)
Resistor, 0Ω, ±1%, 125mW, 150V, ±800ppm/℃, -55℃~+155℃, SMD 0805; Manufacturer: Uniroyal; Manufacturer Part Number: 0805W8F0000T5E; Supplier 1: LCSC; Supplier Part Number 1: C17477; JLCPCB Part Number: C17477; Power Rating: 125mW; Category: Resistors; Package Size: 0805; JLCPCB Basic Part: Yes; Tolerance: ±1%; Voltage Rating: 150V; Temperature Coefficient: ±800ppm/℃; Temperature Rating: -55℃~+155℃; ComponentLink1Description: Datasheet; ComponentLink1URL: https://datasheet.lcsc.com/lcsc/2206010216_UNI-ROYAL-Uniroyal-Elec-0805W8F0000T5E_C17477.pdf; ComponentLink2Description: JLCPCB Part URL; ComponentLink2URL: https://jlcpcb.com/partdetail/C17477
footprint RES-0805 (0805 (2012M) Capacitor)
pins: 1, 2

## 0805W8F100JT5E
designator R?  Resistance: 10Ω  (hidden comment: *)
Resistor, 10Ω, ±1%, 125mW, 150V, ±200ppm/℃, -55℃~+155℃, SMD 0805; Manufacturer: Uniroyal; Manufacturer Part Number: 0805W8F100JT5E; Supplier 1: LCSC; Supplier Part Number 1: C17415; JLCPCB Part Number: C17415; Power Rating: 125mW; Category: Resistors; Package Size: 0805; JLCPCB Basic Part: Yes; Tolerance: ±1%; Voltage Rating: 150V; Temperature Coefficient: ±200ppm/℃; Temperature Rating: -55℃~+155℃; ComponentLink1Description: Datasheet; ComponentLink1URL: https://datasheet.lcsc.com/lcsc/2206010216_UNI-ROYAL-Uniroyal-Elec-0805W8F100JT5E_C17415.pdf; ComponentLink2Description: JLCPCB Part URL; ComponentLink2URL: https://jlcpcb.com/partdetail/C17415
footprint RES-0805 (0805 (2012M) Capacitor)
pins: 1, 2

## 0805W8F100KT5E
designator R?  Resistance: 1Ω  (hidden comment: *)
Resistor, 1Ω, ±1%, 125mW, 150V, ±400ppm/℃, -55℃~+155℃, SMD 0805; Manufacturer: Uniroyal; Manufacturer Part Number: 0805W8F100KT5E; Supplier 1: LCSC; Supplier Part Number 1: C25271; JLCPCB Part Number: C25271; Power Rating: 125mW; Category: Resistors; Package Size: 0805; JLCPCB Basic Part: Yes; Tolerance: ±1%; Voltage Rating: 150V; Temperature Coefficient: ±400ppm/℃; Temperature Rating: -55℃~+155℃; ComponentLink1Description: Datasheet; ComponentLink1URL: https://datasheet.lcsc.com/lcsc/2205311845_UNI-ROYAL-Uniroyal-Elec-0805W8F100KT5E_C25271.pdf; ComponentLink2Description: JLCPCB Part URL; ComponentLink2URL: https://jlcpcb.com/partdetail/C25271
footprint RES-0805 (0805 (2012M) Capacitor)
pins: 1, 2

## 0805W8F150JT5E
designator R?  Resistance: 15Ω  (hidden comment: *)
Resistor, 15Ω, ±1%, 125mW, 150V, ±100ppm/℃, -55℃~+155℃, SMD 0805; Manufacturer: Uniroyal; Manufacturer Part Number: 0805W8F150JT5E; Supplier 1: LCSC; Supplier Part Number 1: C17480; JLCPCB Part Number: C17480; Power Rating: 125mW; Category: Resistors; Package Size: 0805; JLCPCB Basic Part: Yes; Tolerance: ±1%; Voltage Rating: 150V; Temperature Coefficient: ±100ppm/℃; Temperature Rating: -55℃~+155℃; ComponentLink1Description: Datasheet; ComponentLink1URL: https://datasheet.lcsc.com/lcsc/2206010216_UNI-ROYAL-Uniroyal-Elec-0805W8F150JT5E_C17480.pdf; ComponentLink2Description: JLCPCB Part URL; ComponentLink2URL: https://jlcpcb.com/partdetail/C17480
footprint RES-0805 (0805 (2012M) Capacitor)
pins: 1, 2

## 0805W8F200JT5E
designator R?  Resistance: 20Ω  (hidden comment: *)
Resistor, 20Ω, ±1%, 125mW, 150V, ±200ppm/℃, -55℃~+155℃, SMD 0805; Manufacturer: Uniroyal; Manufacturer Part Number: 0805W8F200JT5E; Supplier 1: LCSC; Supplier Part Number 1: C17544; JLCPCB Part Number: C17544; Power Rating: 125mW; Category: Resistors; Package Size: 0805; JLCPCB Basic Part: Yes; Tolerance: ±1%; Voltage Rating: 150V; Temperature Coefficient: ±200ppm/℃; Temperature Rating: -55℃~+155℃; ComponentLink1Description: Datasheet; ComponentLink1URL: https://datasheet.lcsc.com/lcsc/2206010200_UNI-ROYAL-Uniroyal-Elec-0805W8F200JT5E_C17544.pdf; ComponentLink2Description: JLCPCB Part URL; ComponentLink2URL: https://jlcpcb.com/partdetail/C17544
footprint RES-0805 (0805 (2012M) Capacitor)
pins: 1, 2

## 0805W8F200KT5E
designator R?  Resistance: 2Ω  (hidden comment: *)
Resistor, 2Ω, ±1%, 125mW, 150V, ±400ppm/℃, -55℃~+155℃, SMD 0805; Manufacturer: Uniroyal; Manufacturer Part Number: 0805W8F200KT5E; Supplier 1: LCSC; Supplier Part Number 1: C17606; JLCPCB Part Number: C17606; Power Rating: 125mW; Category: Resistors; Package Size: 0805; JLCPCB Basic Part: Yes; Tolerance: ±1%; Voltage Rating: 150V; Temperature Coefficient: ±400ppm/℃; Temperature Rating: -55℃~+155℃; ComponentLink1Description: Datasheet; ComponentLink1URL: https://datasheet.lcsc.com/lcsc/2206010200_UNI-ROYAL-Uniroyal-Elec-0805W8F200KT5E_C17606.pdf; ComponentLink2Description: JLCPCB Part URL; ComponentLink2URL: https://jlcpcb.com/partdetail/C17606
footprint RES-0805 (0805 (2012M) Capacitor)
pins: 1, 2

## 0805W8F220JT5E
designator R?  Resistance: 22Ω  (hidden comment: *)
Resistor, 22Ω, ±1%, 125mW, 150V, ±100ppm/℃, -55℃~+155℃, SMD 0805; Manufacturer: Uniroyal; Manufacturer Part Number: 0805W8F220JT5E; Supplier 1: LCSC; Supplier Part Number 1: C17561; JLCPCB Part Number: C17561; Power Rating: 125mW; Category: Resistors; Package Size: 0805; JLCPCB Basic Part: Yes; Tolerance: ±1%; Voltage Rating: 150V; Temperature Coefficient: ±100ppm/℃; Temperature Rating: -55℃~+155℃; ComponentLink1Description: Datasheet; ComponentLink1URL: https://datasheet.lcsc.com/lcsc/2206010200_UNI-ROYAL-Uniroyal-Elec-0805W8F220JT5E_C17561.pdf; ComponentLink2Description: JLCPCB Part URL; ComponentLink2URL: https://jlcpcb.com/partdetail/C17561
footprint RES-0805 (0805 (2012M) Capacitor)
pins: 1, 2

## 0805W8F220KT5E
designator R?  Resistance: 2.2Ω  (hidden comment: *)
Resistor, 2.2Ω, ±1%, 125mW, 150V, ±400ppm/℃, -55℃~+155℃, SMD 0805; Manufacturer: Uniroyal; Manufacturer Part Number: 0805W8F220KT5E; Supplier 1: LCSC; Supplier Part Number 1: C17521; JLCPCB Part Number: C17521; Power Rating: 125mW; Category: Resistors; Package Size: 0805; JLCPCB Basic Part: Yes; Tolerance: ±1%; Voltage Rating: 150V; Temperature Coefficient: ±400ppm/℃; Temperature Rating: -55℃~+155℃; ComponentLink1Description: Datasheet; ComponentLink1URL: https://datasheet.lcsc.com/lcsc/2206010200_UNI-ROYAL-Uniroyal-Elec-0805W8F220KT5E_C17521.pdf; ComponentLink2Description: JLCPCB Part URL; ComponentLink2URL: https://jlcpcb.com/partdetail/C17521
footprint RES-0805 (0805 (2012M) Capacitor)
pins: 1, 2

## 0805W8F270JT5E
designator R?  Resistance: 27Ω  (hidden comment: *)
Resistor, 27Ω, ±1%, 125mW, 150V, ±100ppm/℃, -55℃~+155℃, SMD 0805; Manufacturer: Uniroyal; Manufacturer Part Number: 0805W8F270JT5E; Supplier 1: LCSC; Supplier Part Number 1: C17594; JLCPCB Part Number: C17594; Power Rating: 125mW; Category: Resistors; Package Size: 0805; JLCPCB Basic Part: Yes; Tolerance: ±1%; Voltage Rating: 150V; Temperature Coefficient: ±100ppm/℃; Temperature Rating: -55℃~+155℃; ComponentLink1Description: Datasheet; ComponentLink1URL: https://datasheet.lcsc.com/lcsc/2206010200_UNI-ROYAL-Uniroyal-Elec-0805W8F270JT5E_C17594.pdf; ComponentLink2Description: JLCPCB Part URL; ComponentLink2URL: https://jlcpcb.com/partdetail/C17594
footprint RES-0805 (0805 (2012M) Capacitor)
pins: 1, 2

## 0805W8F330JT5E
designator R?  Resistance: 33Ω  (hidden comment: *)
Resistor, 33Ω, ±1%, 125mW, 150V, ±200ppm/℃, -55℃~+155℃, SMD 0805; Manufacturer: Uniroyal; Manufacturer Part Number: 0805W8F330JT5E; Supplier 1: LCSC; Supplier Part Number 1: C17634; JLCPCB Part Number: C17634; Power Rating: 125mW; Category: Resistors; Package Size: 0805; JLCPCB Basic Part: Yes; Tolerance: ±1%; Voltage Rating: 150V; Temperature Coefficient: ±200ppm/℃; Temperature Rating: -55℃~+155℃; ComponentLink1Description: Datasheet; ComponentLink1URL: https://datasheet.lcsc.com/lcsc/2205311830_UNI-ROYAL-Uniroyal-Elec-0805W8F330JT5E_C17634.pdf; ComponentLink2Description: JLCPCB Part URL; ComponentLink2URL: https://jlcpcb.com/partdetail/C17634
footprint RES-0805 (0805 (2012M) Capacitor)
pins: 1, 2

## 0805W8F470JT5E
designator R?  Resistance: 47Ω  (hidden comment: *)
Resistor, 47Ω, ±1%, 125mW, 150V, ±200ppm/℃, -55℃~+155℃, SMD 0805; Manufacturer: Uniroyal; Manufacturer Part Number: 0805W8F470JT5E; Supplier 1: LCSC; Supplier Part Number 1: C17714; JLCPCB Part Number: C17714; Power Rating: 125mW; Category: Resistors; Package Size: 0805; JLCPCB Basic Part: Yes; Tolerance: ±1%; Voltage Rating: 150V; Temperature Coefficient: ±200ppm/℃; Temperature Rating: -55℃~+155℃; ComponentLink1Description: Datasheet; ComponentLink1URL: https://datasheet.lcsc.com/lcsc/2206010200_UNI-ROYAL-Uniroyal-Elec-0805W8F470JT5E_C17714.pdf; ComponentLink2Description: JLCPCB Part URL; ComponentLink2URL: https://jlcpcb.com/partdetail/C17714
footprint RES-0805 (0805 (2012M) Capacitor)
pins: 1, 2

## 0805W8F470KT5E
designator R?  Resistance: 4.7Ω  (hidden comment: *)
Resistor, 4.7Ω, ±1%, 125mW, 150V, ±200ppm/℃, -55℃~+155℃, SMD 0805; Manufacturer: Uniroyal; Manufacturer Part Number: 0805W8F470KT5E; Supplier 1: LCSC; Supplier Part Number 1: C17675; JLCPCB Part Number: C17675; Power Rating: 125mW; Category: Resistors; Package Size: 0805; JLCPCB Basic Part: Yes; Tolerance: ±1%; Voltage Rating: 150V; Temperature Coefficient: ±200ppm/℃; Temperature Rating: -55℃~+155℃; ComponentLink1Description: Datasheet; ComponentLink1URL: https://datasheet.lcsc.com/lcsc/2206010200_UNI-ROYAL-Uniroyal-Elec-0805W8F470KT5E_C17675.pdf; ComponentLink2Description: JLCPCB Part URL; ComponentLink2URL: https://jlcpcb.com/partdetail/C17675
footprint RES-0805 (0805 (2012M) Capacitor)
pins: 1, 2

## 0805W8F499JT5E
designator R?  Resistance: 49.9Ω  (hidden comment: *)
Resistor, 49.9Ω, ±1%, 125mW, 150V, ±100ppm/℃, -55℃~+155℃, SMD 0805; Manufacturer: Uniroyal; Manufacturer Part Number: 0805W8F499JT5E; Supplier 1: LCSC; Supplier Part Number 1: C17720; JLCPCB Part Number: C17720; Power Rating: 125mW; Category: Resistors; Package Size: 0805; JLCPCB Basic Part: Yes; Tolerance: ±1%; Voltage Rating: 150V; Temperature Coefficient: ±100ppm/℃; Temperature Rating: -55℃~+155℃; ComponentLink1Description: Datasheet; ComponentLink1URL: https://datasheet.lcsc.com/lcsc/2206010200_UNI-ROYAL-Uniroyal-Elec-0805W8F499JT5E_C17720.pdf; ComponentLink2Description: JLCPCB Part URL; ComponentLink2URL: https://jlcpcb.com/partdetail/C17720
footprint RES-0805 (0805 (2012M) Capacitor)
pins: 1, 2

## 0805W8F510JT5E
designator R?  Resistance: 51Ω  (hidden comment: *)
Resistor, 51Ω, ±1%, 125mW, 150V, ±100ppm/℃, -55℃~+155℃, SMD 0805; Manufacturer: Uniroyal; Manufacturer Part Number: 0805W8F510JT5E; Supplier 1: LCSC; Supplier Part Number 1: C17738; JLCPCB Part Number: C17738; Power Rating: 125mW; Category: Resistors; Package Size: 0805; JLCPCB Basic Part: Yes; Tolerance: ±1%; Voltage Rating: 150V; Temperature Coefficient: ±100ppm/℃; Temperature Rating: -55℃~+155℃; ComponentLink1Description: Datasheet; ComponentLink1URL: https://datasheet.lcsc.com/lcsc/2206010200_UNI-ROYAL-Uniroyal-Elec-0805W8F510JT5E_C17738.pdf; ComponentLink2Description: JLCPCB Part URL; ComponentLink2URL: https://jlcpcb.com/partdetail/C17738
footprint RES-0805 (0805 (2012M) Capacitor)
pins: 1, 2

## 0805W8F510KT5E
designator R?  Resistance: 5.1Ω  (hidden comment: *)
Resistor, 5.1Ω, ±1%, 125mW, 150V, ±400ppm/℃, -55℃~+155℃, SMD 0805; Manufacturer: Uniroyal; Manufacturer Part Number: 0805W8F510KT5E; Supplier 1: LCSC; Supplier Part Number 1: C17724; JLCPCB Part Number: C17724; Power Rating: 125mW; Category: Resistors; Package Size: 0805; JLCPCB Basic Part: Yes; Tolerance: ±1%; Voltage Rating: 150V; Temperature Coefficient: ±400ppm/℃; Temperature Rating: -55℃~+155℃; ComponentLink1Description: Datasheet; ComponentLink1URL: https://datasheet.lcsc.com/lcsc/2206010200_UNI-ROYAL-Uniroyal-Elec-0805W8F510KT5E_C17724.pdf; ComponentLink2Description: JLCPCB Part URL; ComponentLink2URL: https://jlcpcb.com/partdetail/C17724
footprint RES-0805 (0805 (2012M) Capacitor)
pins: 1, 2